# EAGLE library part ADAFRUIT_MTK3339_GPS (library AERO_Eagle_Library)
Adafruit's Ultimate GPS Breakout: MTK3339 https://www.adafruit.com/product/746
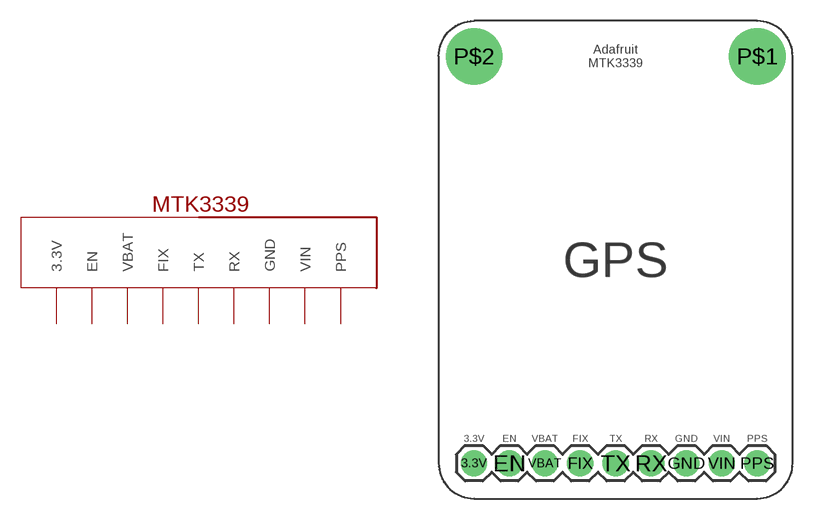
[diagram p5: symbol with the pads of ADAFRUIT_MTK3339_GPS; footprint ADAFRUIT_MTK3339_GPS]

Designator prefix U

## ADAFRUIT_MTK3339_GPS  [ADAFRUIT_MTK3339_GPS]
3.3V  3.3V
EN  EN
FIX  FIX
GND  GND
PPS  PPS
RX  RX
TX  TX
VBAT  VBAT
VIN  VIN

## Footprint ADAFRUIT_MTK3339_GPS (pad centres in mm)
Adafruit's Ultimate GPS Breakout: MTK3339 https://www.adafruit.com/product/746
drill 1.016 pad 1.88: 3.3V 2.54,2.54; EN 5.08,2.54; FIX 10.16,2.54; GND 17.78,2.54; PPS 22.86,2.54; RX 15.24,2.54; TX 12.7,2.54; VBAT 7.62,2.54; VIN 20.32,2.54
drill 2.54 pad 4.064: P$1 22.86,31.75; P$2 2.54,31.75